# Altium footprint library UCDFR IC's.PcbLib: 13 footprints
Each footprint in its own frame and in the unit in brackets; x right, y up, seen from the top. Pads: shape width x height; smd on the part's side, far side on the other; paste and mask are expansions set on the pad; w line width, h text height; cw(c..) or ccw(c..) is an arc to the next point about the centre after c.
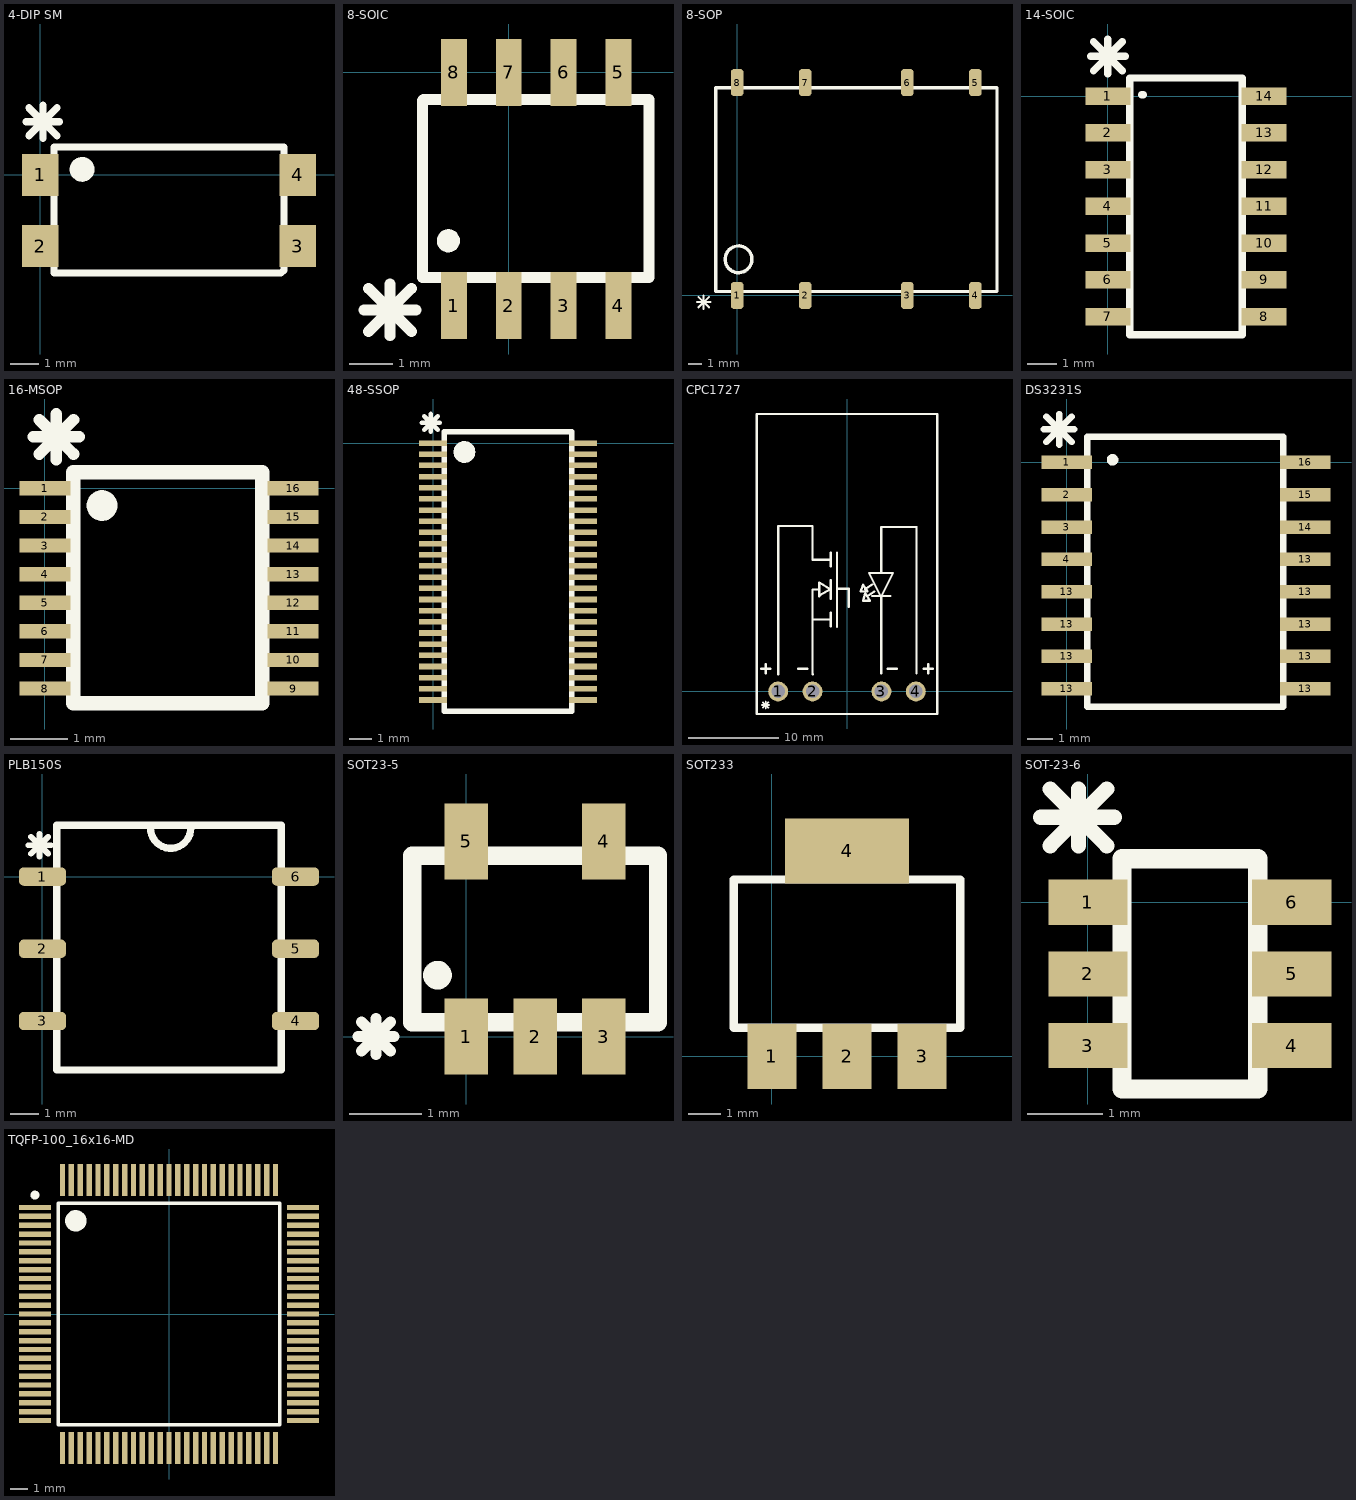
[diagram p0: the footprints below, top view; thin cyan lines are the x and y axes]

## 4-DIP SM [mm] "4-Pin DIP Surface Mount"
pads (4):
  rect 1.3x1.5 smd: 1(0,0) 2(0,-2.54) 3(9.2,-2.54) 4(9.2,0)
Top Overlay:
  circle w0.254: c1.5,0.2 r0.316
  lines w0.254: -0.5,1.9 0.7,1.9 ; -0.4,1.4 0.6,2.4 ; -0.4,2.4 0.6,1.4 ; 0.1,1.3 0.1,2.5 ; 0.5,-3.5 8.6,-3.5 8.7,-3.4 8.7,1 0.5,1 0.5,-3.5
  lines w0.454: 1.3,0.2 1.6,0.2
3D body: height 4.18, standoff 0, extent -0.625,-3.428 9.825,0.829

## 8-SOIC [mm]
pads (8):
  rect 0.6x1.55 smd: 1(-1.27,-5.4) 2(0,-5.4) 3(1.27,-5.4) 4(2.54,-5.4) 5(2.54,0) 6(1.27,0) 7(0,0) 8(-1.27,0)
Top Overlay:
  circle w0.254: c-1.4,-3.9 r0.141
  lines w0.254: -3.35,-5.5 -2.15,-5.5 ; -3.25,-6 -2.25,-5 ; -3.25,-5 -2.25,-6 ; -2.75,-6.1 -2.75,-4.9 ; -2,-0.65 -2,-4.75 3.25,-4.75 3.25,-0.625 -1.975,-0.625 ; -1.4,-3.9 -1.259,-3.9
3D body: height 1.75, standoff 0, extent -1.925,-5.825 3.075,0.375

## 8-SOP [mm]
pads (8):
  rrect50% 0.95x2 smd: 1(0,0) 2(5.08,0) 3(12.702,0) 4(17.782,0) 5(17.782,15.9) 6(12.702,15.9) 7(5.08,15.9) 8(0,15.9)
Top Overlay:
  circle w0.254: c0.1,2.7 r1
  lines w0.152: -3,-0.5 -2,-0.5 ; -2.9,-0.9 -2.1,-0.1 ; -2.9,-0.1 -2.1,-0.9 ; -2.5,-1 -2.5,0
  lines w0.254: 19.3,0.3 -1.6,0.3 -1.6,15.5 19.4,15.5 19.4,0.3
3D body: height 3.43, standoff -0.03, extent -1.641,0.051 19.441,15.95

## 14-SOIC [mm] "IC QUAD COMP P-P NANOPWR 14-SOIC"
height 1.75
pads (14):
  rect 1.55x0.6 smd: 1(0,0) 2(0,-1.27) 3(0,-2.54) 4(0,-3.81) 5(0,-5.08) 6(0,-6.35) 7(0,-7.62) 8(5.4,-7.62) 9(5.4,-6.35) 10(5.4,-5.08) 11(5.4,-3.81) 12(5.4,-2.54) 13(5.4,-1.27) 14(5.4,0)
Top Overlay:
  lines w0.254: -0.6,1.375 0.6,1.375 ; -0.5,0.875 0.5,1.875 ; -0.5,1.875 0.5,0.875 ; 0,0.775 0,1.975 ; 1.175,0.05 1.225,0.05 ; 0.75,-8.25 4.65,-8.25 4.65,0.625 0.75,0.625 0.75,-8.25
3D body: height 1.75, standoff 0, extent -0.3,-8.175 5.7,0.575

## 16-MSOP [mm]
height 1.1
pads (16):
  rect 0.889x0.25 smd: 1(0,0) 2(0,-0.5) 3(0,-1) 4(0,-1.5) 5(0,-2) 6(0,-2.5) 7(0,-3) 8(0,-3.5) 9(4.341,-3.5) 10(4.341,-3) 11(4.341,-2.5) 12(4.341,-2) 13(4.341,-1.5) 14(4.341,-1) 15(4.341,-0.5) 16(4.341,0)
Top Overlay:
  circle w0.254: c1,-0.3 r0.141
  lines w0.203: -0.2,0.9 0.6,0.9 ; -0.1,0.6 0.5,1.2 ; -0.1,1.2 0.5,0.6 ; 0.2,0.5 0.2,1.3
  lines w0.254: 1,-0.3 1.141,-0.3 ; 0.5,-3.759 0.5,0.28 3.8,0.28 3.8,-3.759 0.5,-3.759

## 48-SSOP [mm] "48 pin SSOP"
height 2
pads (48):
  rect 1.25x0.25 smd: 1(0,0) 2(0,-0.5) 3(0,-1) 4(0,-1.5) 5(0,-2) 6(0,-2.5) 7(0,-3) 8(0,-3.5) 9(0,-4) 10(0,-4.5) 11(0,-5) 12(0,-5.5) 13(0,-6) 14(0,-6.5) 15(0,-7) 16(0,-7.5) 17(0,-8) 18(0,-8.5) 19(0,-9) 20(0,-9.5) 21(0,-10) 22(0,-10.5) 23(0,-11) 24(0,-11.5) 25(6.7,-11.5) 26(6.7,-11) 27(6.7,-10.5) 28(6.7,-10) 29(6.7,-9.5) 30(6.7,-9) 31(6.7,-8.5) 32(6.7,-8) 33(6.7,-7.5) 34(6.7,-7) 35(6.7,-6.5) 36(6.7,-6) 37(6.7,-5.5) 38(6.7,-5) 39(6.7,-4.5) 40(6.7,-4) 41(6.7,-3.5) 42(6.7,-3) 43(6.7,-2.5) 44(6.7,-2) 45(6.7,-1.5) 46(6.7,-1) 47(6.7,-0.5) 48(6.7,0)
Top Overlay:
  circle w0.254: c1.4,-0.4 r0.361
  circle w0.254: c1.4,-0.4 r0.141
  lines w0.203: -0.5,0.9 0.3,0.9 ; -0.4,0.6 0.2,1.2 ; -0.4,1.2 0.2,0.6 ; -0.1,0.5 -0.1,1.3
  lines w0.254: 1.2,-0.4 1.541,-0.4 ; 0.5,-12 6.2,-12 6.2,0.5 0.5,0.5 0.5,-12

## CPC1727 [mm] "IXYS, CPC1727, SS Relay"
pads (4):
  round 2.2 hole 1.5: 1(-7.62,0) 2(-3.81,0) 3(3.81,0) 4(7.62,0)
Top Overlay:
  lines w0.203: -9.4,-1.5 -8.6,-1.5 ; -9.3,-1.8 -8.7,-1.2 ; -9.3,-1.2 -8.7,-1.8 ; -9,-1.9 -9,-1.1
  lines w0.254: -9.5,2.5 -8.5,2.5 ; -9,2 -9,3 ; -7.6,1.9 -7.6,18.3 -3.849,18.3 -3.825,18.275 -3.825,17.636 -3.825,14.583 -1.793,14.583 ; -5.4,2.5 -4.4,2.5 ; -3.825,8.223 -3.825,4.916 -3.825,1.925 -3.8,1.9 ; -3.063,10.513 -3.063,12.039 -1.793,11.276 ; -3.063,10.595 -1.793,11.358 ; -3.063,11.276 -3.825,11.276 -3.825,7.969 -1.793,7.969 ; -1.793,7.205 -1.793,8.732 ; -1.793,10.258 -1.793,12.293 ; -1.793,13.82 -1.793,15.346 ; -1.1,7.167 -1.1,7.535 -1.1,15.367 ; -1.1,11.367 0.2,11.367 0.2,9.367 ; 2.023,11.319 2.784,11.828 ; 2.277,10.556 3.038,11.065 ; 2.446,13.105 3.716,10.561 ; 2.531,13.1 5.069,13.1 3.8,10.556 3.8,5.468 3.8,2 ; 2.784,10.556 4.816,10.556 ; 3.8,13.1 3.8,18.188 7.688,18.188 7.7,18.176 7.7,2 ; 4.5,2.5 5.5,2.5 ; 8.5,2.5 9.5,2.5 ; 9,2 9,3 ; -10,-2.5 -10,30.7 10,30.7 10,-2.5 -10,-2.5 ; 1.515,11.065 2.277,11.065 1.769,11.828 1.515,11.065 ; 1.769,10.047 2.531,10.047 2.023,10.81 1.769,10.047
3D body: height 5.03, standoff -1.26, extent -9.957,-0.3 9.957,30.447

## DS3231S [mm] "Maxium DS3231 RTC, 16-pins"
height 2.65
pads (16):
  rect 1.98x0.53 smd: 1(0,0) 2(0,-1.27) 3(0,-2.54) 4(0,-3.81) 13(0,-8.89) 13(0,-7.62) 13(0,-6.35) 13(0,-5.08) 13(9.37,-8.89) 13(9.37,-7.62) 13(9.37,-6.35) 13(9.37,-5.08) 13(9.37,-3.81) 14(9.37,-2.54) 15(9.37,-1.27) 16(9.37,0)
Top Overlay:
  circle w0.254: c1.8,0.1 r0.1
  lines w0.254: -0.9,1.3 0.3,1.3 ; -0.8,0.8 0.2,1.8 ; -0.8,1.8 0.2,0.8 ; -0.3,0.7 -0.3,1.9 ; 0.8,-9.6 8.5,-9.6 8.5,-7.1 8.5,-1.7 8.5,1 0.8,1 0.8,-1.7 0.8,-7.1 0.8,-9.6

## PLB150S [mm] "IXYS PhotoMOS"
pads (6):
  rrect50% 1.65x0.65 smd: 1(0,0) 2(0,-2.54) 3(0,-5.08) 4(8.9,-5.08) 5(8.9,-2.54) 6(8.9,0)
Top Overlay:
  lines w0.203: -0.5,1.1 0.3,1.1 ; -0.4,0.8 0.2,1.4 ; -0.4,1.4 0.2,0.8 ; -0.1,0.7 -0.1,1.5
  lines w0.254: 3.8,1.7 ccw(c4.507,1.7) 5.214,1.7 ; 0.5,-6.8 0.5,1.8 8.4,1.8 8.4,-6.8 0.5,-6.8

## SOT23-5 [mm]
pads (5):
  rect 0.6x1.05 smd: 1(0,0) 2(0.95,0) 3(1.9,0) 4(1.9,2.7) 5(0,2.7)
Top Overlay:
  circle w0.254: c-0.4,0.85 r0.071
  lines w0.152: -1.5,0 -1,0 ; -1.45,-0.2 -1.05,0.2 ; -1.45,0.2 -1.05,-0.2 ; -1.25,-0.25 -1.25,0.25
  lines w0.254: -0.75,0.2 -0.75,2.5 2.65,2.5 2.65,0.2 2.5,0.2 -0.75,0.2
3D body: height 1.53, standoff -0.03, extent -0.5,0 2.4,2.842

## SOT233 [mm]
height 1.55
pads (4):
  rect 1.5x2 smd: 1(0,0) 2(2.3,0) 3(4.6,0)
  rect 3.8x2 smd: 4(2.3,6.3)
Top Overlay:
  lines w0.254: -1.175,0.875 5.775,0.875 5.775,5.425 -1.175,5.425 -1.175,0.875
3D body: height 1.7, standoff 0, extent -0.9,-0.35 5.6,6.65

## SOT-23-6 [mm]
pads (6):
  rect 1.05x0.6 smd: 1(0,0) 2(0,-0.95) 3(0,-1.9) 4(2.7,-1.9) 5(2.7,-0.95) 6(2.7,0)
Top Overlay:
  lines w0.203: -0.625,1.125 0.35,1.125 ; -0.5,0.75 0.25,1.5 ; -0.5,1.5 0.25,0.75 ; -0.125,0.75 -0.125,1.5
  lines w0.254: 0.45,-2.475 2.25,-2.475 2.25,0.575 0.45,0.575 0.45,-2.475
3D body: height 1.45, standoff 0, extent -0.05,-2.4 2.75,0.5

## TQFP-100_16x16-MD [mm] "TQFP, 100-Leads, Body 16.3x16.3mm (max), Pitch 0.50mm, Medium Density"
height 1.6
pads (100):
  rect 1.8x0.3 smd: 1(-7.55,6) 2(-7.55,5.5) 3(-7.55,5) 4(-7.55,4.5) 5(-7.55,4) 6(-7.55,3.5) 7(-7.55,3) 8(-7.55,2.5) 9(-7.55,2) 10(-7.55,1.5) 11(-7.55,1) 12(-7.55,0.5) 13(-7.55,0) 14(-7.55,-0.5) 15(-7.55,-1) 16(-7.55,-1.5) 17(-7.55,-2) 18(-7.55,-2.5) 19(-7.55,-3) 20(-7.55,-3.5) 21(-7.55,-4) 22(-7.55,-4.5) 23(-7.55,-5) 24(-7.55,-5.5) 25(-7.55,-6) 51(7.55,-6) 52(7.55,-5.5) 53(7.55,-5) 54(7.55,-4.5) 55(7.55,-4) 56(7.55,-3.5) 57(7.55,-3) 58(7.55,-2.5) 59(7.55,-2) 60(7.55,-1.5) 61(7.55,-1) 62(7.55,-0.5) 63(7.55,0) 64(7.55,0.5) 65(7.55,1) 66(7.55,1.5) 67(7.55,2) 68(7.55,2.5) 69(7.55,3) 70(7.55,3.5) 71(7.55,4) 72(7.55,4.5) 73(7.55,5) 74(7.55,5.5) 75(7.55,6)
  rect 0.3x1.8 smd: 26(-6,-7.55) 27(-5.5,-7.55) 28(-5,-7.55) 29(-4.5,-7.55) 30(-4,-7.55) 31(-3.5,-7.55) 32(-3,-7.55) 33(-2.5,-7.55) 34(-2,-7.55) 35(-1.5,-7.55) 36(-1,-7.55) 37(-0.5,-7.55) 38(0,-7.55) 39(0.5,-7.55) 40(1,-7.55) 41(1.5,-7.55) 42(2,-7.55) 43(2.5,-7.55) 44(3,-7.55) 45(3.5,-7.55) 46(4,-7.55) 47(4.5,-7.55) 48(5,-7.55) 49(5.5,-7.55) 50(6,-7.55) 76(6,7.55) 77(5.5,7.55) 78(5,7.55) 79(4.5,7.55) 80(4,7.55) 81(3.5,7.55) 82(3,7.55) 83(2.5,7.55) 84(2,7.55) 85(1.5,7.55) 86(1,7.55) 87(0.5,7.55) 88(0,7.55) 89(-0.5,7.55) 90(-1,7.55) 91(-1.5,7.55) 92(-2,7.55) 93(-2.5,7.55) 94(-3,7.55) 95(-3.5,7.55) 96(-4,7.55) 97(-4.5,7.55) 98(-5,7.55) 99(-5.5,7.55) 100(-6,7.55)
Top Overlay:
  circle w0.6: c-5.25,5.25 r0.3
  circle w0.25: c-7.55,6.7 r0.125
  lines w0.2: -6.25,-6.25 6.25,-6.25 6.25,6.25 -6.25,6.25 -6.25,-6.25
3D body: height 1.4, standoff -0.1, extent -8,-8 8,8